# EAGLE library part HA0470500000G-DNU (library con-amp-custom)
TERM BLK 4 POS 3.81MM PCB VERT Source: Datasheet <https://www.mouser.co.uk/datasheet/2/18/btyqF7joFIRm-1379697.pdf>
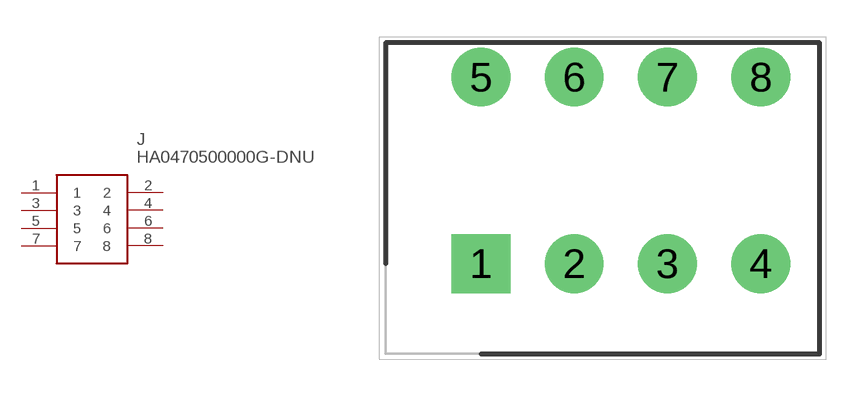
[diagram p0: symbol with the pads of SHDR8W100P762X381_2X4_1774X127; footprint SHDR8W100P762X381_2X4_1774X127]

Designator prefix J

## HA0470500000G-DNU (DESCRIPTION: TERM BLK 4 POS 3.81MM PCB VERT; HEIGHT: 13.7mm; MFG: Amphenol; MPN: HA0470500000G)  [SHDR8W100P762X381_2X4_1774X127]
1  1
2  2
3  3
4  4
5  5
6  6
7  7
8  8

## Footprint SHDR8W100P762X381_2X4_1774X127 (pad centres in mm)
HA0470500000G
drill 1.6 pad 2.4 square: 1 0,0
drill 1.6 pad 2.4: 2 3.81,0; 3 7.62,0; 4 11.43,0; 5 0,7.62; 6 3.81,7.62; 7 7.62,7.62; 8 11.43,7.62